# EAGLE library part HEADER10X02 (library custom)
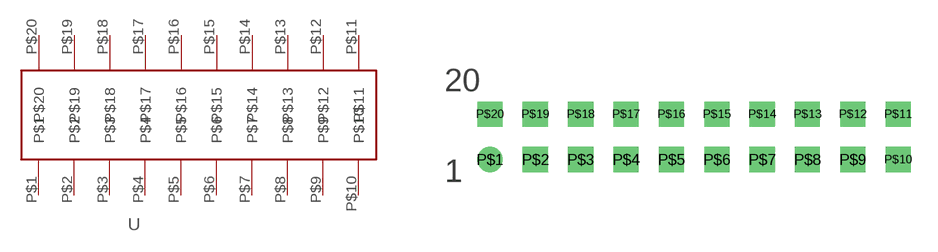
[diagram p17: symbol with the pads of HEADER10X2; footprint HEADER10X2]

Designator prefix -

## HEADER10X02609-3555-ND  [HEADER10X2]
P$1  P$1
P$2  P$2
P$3  P$3
P$4  P$4
P$5  P$5
P$6  P$6
P$7  P$7
P$8  P$8
P$9  P$9
P$10  P$10
P$11  P$11
P$12  P$12
P$13  P$13
P$14  P$14
P$15  P$15
P$16  P$16
P$17  P$17
P$18  P$18
P$19  P$19
P$20  P$20

## Footprint HEADER10X2 (pad centres in mm)
drill 0.9 round: P$1 -11.43,-1.27
drill 0.9 square: P$2 -8.89,-1.27; P$3 -6.35,-1.27; P$4 -3.81,-1.27; P$5 -1.27,-1.27; P$6 1.27,-1.27; P$7 3.81,-1.27; P$8 6.35,-1.27; P$9 8.89,-1.27; P$10 11.43,-1.27; P$11 11.43,1.27; P$12 8.89,1.27; P$13 6.35,1.27; P$14 3.81,1.27; P$15 1.27,1.27; P$16 -1.27,1.27; P$17 -3.81,1.27; P$18 -6.35,1.27; P$19 -8.89,1.27; P$20 -11.43,1.27